# Altium schematic symbol library PMEG6030EVPX.SCHLIB: 1 symbol
Pins are listed as number, name and electrical type; pins without a type are passive.

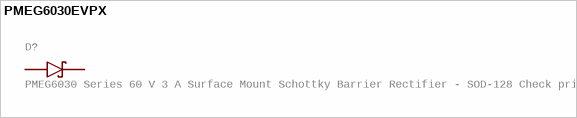
[diagram p0: symbol PMEG6030EVPX]

## PMEG6030EVPX
designator D?, comment PMEG6030 Series 60 V 3 A Surface Mount Schottky Barrier Rectifier - SOD-128 Check prices
GateName_1: G$1; SymbolName_1: PMEG6030EVPX; MF: Nexperia USA; Description: Diode Schottky 60V 3A Surface Mount SOD-128/CFP5; LibraryName: PMEG6030EVPX; DeviceSetName: PMEG6030EVPX; Package: DIO_PMEG6030EVPX; Price: None; Availability: In Stock; Purchase-URL: https://pricing.snapeda.com/search/part/PMEG6030EVPX/?ref=eda; MP: PMEG6030EVPX; Package: CFP5-2 Nexperia USA Inc.
footprint DIO_PMEG6030EVPX
pins: 1 K, 2 A